# Altium footprint library DIP16_buffer.PcbLib: 1 footprints
Each footprint in its own frame and in the unit in brackets; x right, y up, seen from the top. Pads: shape width x height; smd on the part's side, far side on the other; paste and mask are expansions set on the pad; w line width, h text height; cw(c..) or ccw(c..) is an arc to the next point about the centre after c.
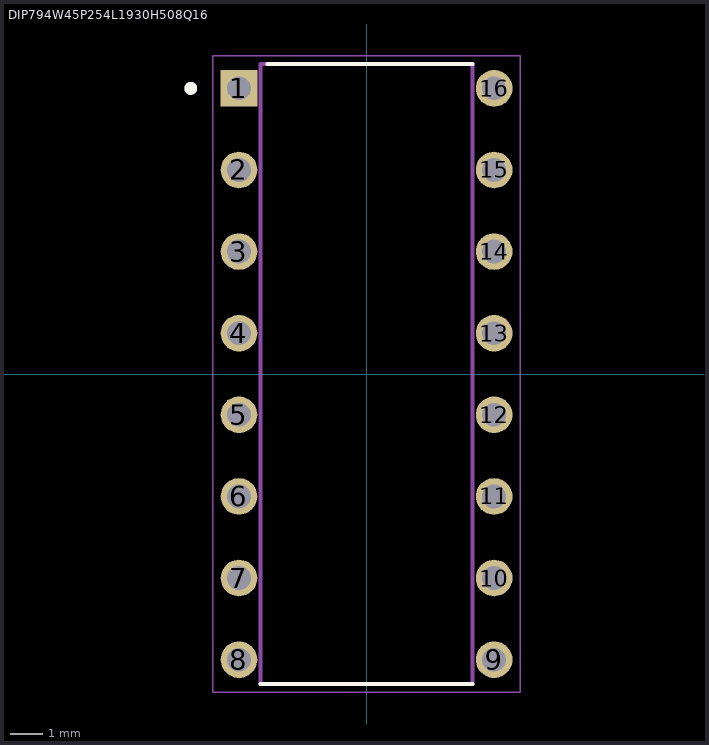
[diagram p0: the footprint, top view; thin cyan lines are the x and y axes]

## DIP794W45P254L1930H508Q16 [mm]
pads (16):
  rect 1.14x1.14 / inner round 1.14 / far side rect 1.14x1.14 hole 0.74: 1(-3.97,8.89)
  round 1.14 hole 0.74: 2(-3.97,6.35) 3(-3.97,3.81) 4(-3.97,1.27) 5(-3.97,-1.27) 6(-3.97,-3.81) 7(-3.97,-6.35) 8(-3.97,-8.89) 9(3.97,-8.89) 10(3.97,-6.35) 11(3.97,-3.81) 12(3.97,-1.27) 13(3.97,1.27) 14(3.97,3.81) 15(3.97,6.35) 16(3.97,8.89)
Top Overlay:
  circle w0.2: c-5.47,8.89 r0.1
  lines w0.127: -3.3,-9.653 3.3,-9.653 ; -3.08,9.653 3.3,9.653
Mechanical 13:
  circle w0.2: c-5.47,8.89 r0.1
  lines w0.127: -3.3,-9.653 -3.3,9.653 3.3,9.653 3.3,-9.653 -3.3,-9.653
Mechanical 15:
  lines w0.05: -4.79,-9.902 4.79,-9.902 4.79,9.902 -4.79,9.902 -4.79,-9.902
3D body "step_temp.STEP": height 5.08, standoff -3.17, extent -4.097,-9.652 4.097,9.652